# Altium footprint library esp8266modules.PCBLIB: 25 footprints (part 2 of 2)
Each footprint in its own frame and in the unit in brackets; x right, y up, seen from the top. Pads: shape width x height; smd on the part's side, far side on the other; paste and mask are expansions set on the pad; w line width, h text height; cw(c..) or ccw(c..) is an arc to the next point about the centre after c.
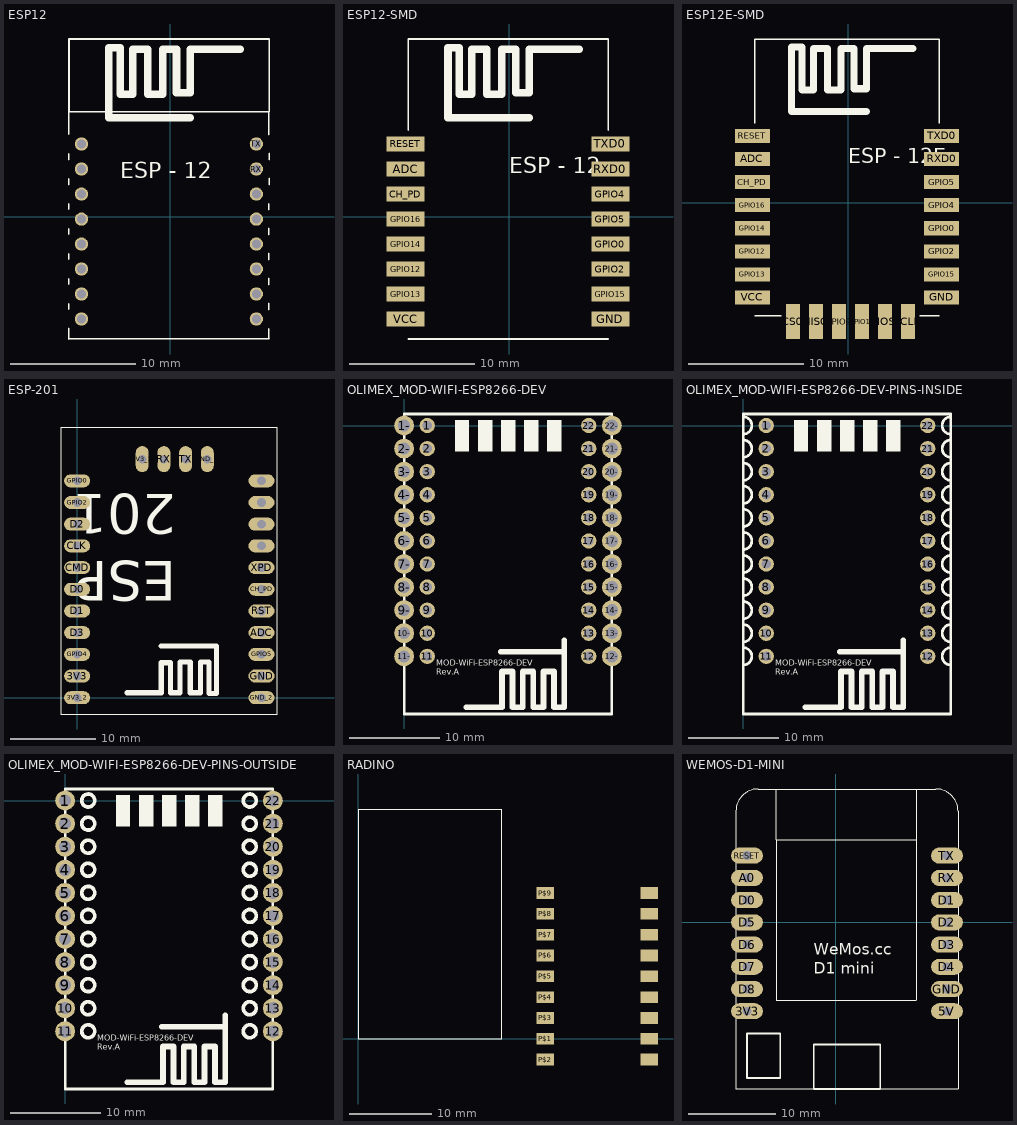
[diagram p1: the footprints below, top view; thin cyan lines are the x and y axes]

## ESP12 [mil]
pads (16):
  round 42 hole 28: ADC(-279.53,150) CH_PD(-279.53,71) GND(272,-322.83) GPIO0(272,-86.61) GPIO2(272,-165.35) GPIO4(272,71) GPIO5(272,-7.87) GPIO12(-279.53,-165.35) GPIO13(-279.53,-244.09) GPIO14(-279.53,-86.61) GPIO15(272,-244.09) GPIO16(-279.53,-7.87) RESET(-279.53,229) RX(272,150) TX(272,229) VCC(-279.53,-322.83)
Top Overlay:
  lines w5: -319,-386 -319,-353 ; -319,-292 -319,-275 ; -319,-214 -319,-196 ; -319,-135 -319,-117 ; -319,-56 -319,-38 ; -319,23 -319,40 ; -319,101 -319,119 ; -319,180 -319,198 ; -319,259 -319,331 ; -318.9,-385.83 312,-385.83 ; 310,331 311,331 311,258 ; 311,-385 311,-354 ; 311,-293 311,-274 ; 311,-215 311,-194 ; 311,-136 311,-115 ; 311,-57 311,-37 ; 311,22 311,41 ; 312,100 312,120 ; 312,180 312,199 ; -318.9,331 -318.9,560 312,560 312,331 -318.9,331
  lines w24: -192.91,335 -192.91,312 63,312 ; -192.91,339 -192.91,532 -157.48,532 -157.48,386 -118.11,386 -118.11,528 -70.87,528 -70.87,386 -23.62,386 -23.62,528 20,528 20,390 63,390 63,528 221,528
  text "ESP - 12" at -157.48,103 h86.8

## ESP12-SMD [mil]
pads (16):
  rect 119x48 smd: ADC(-326.77,150) CH_PD(-326.77,71) GND(319,-322.83) GPIO0(319,-86.61) GPIO2(319,-165.35) GPIO4(319,71) GPIO5(319,-7.87) GPIO12(-326.77,-165.35) GPIO13(-326.77,-244.09) GPIO14(-326.77,-86.61) GPIO15(319,-244.09) GPIO16(-326.77,-7.87) RESET(-326.77,229) RXD0(319,150) TXD0(319,229) VCC(-326.77,-322.83)
Top Overlay:
  lines w5: -318.9,-385.83 312,-385.83 ; -318.9,272 -318.9,560 312,560 312,272
  lines w24: -192.91,335 -192.91,312 63,312 ; -192.91,339 -192.91,532 -157.48,532 -157.48,386 -118.11,386 -118.11,528 -70.87,528 -70.87,386 -23.62,386 -23.62,528 20,528 20,390 63,390 63,528 221,528
  text "ESP - 12" at 0,119 h86.8

## ESP12E-SMD [mil]
pads (22):
  rect 119x48 smd: ADC(-326.77,150) CH_PD(-326.77,71) GND(319,-322.83) GPIO0(319,-86.61) GPIO2(319,-165.35) GPIO4(319,-7.87) GPIO5(319,71) GPIO12(-326.77,-165.35) GPIO13(-326.77,-244.09) GPIO14(-326.77,-86.61) GPIO15(319,-244.09) GPIO16(-326.77,-7.87) RESET(-326.77,229) RXD0(319,150) TXD0(319,229) VCC(-326.77,-322.83)
  rect 48x119 smd: CS0(-188.98,-405.51) GPIO9(-31.5,-405.51) GPIO10(48,-405.51) MISO(-110.24,-405.51) MOSI(126,-405.51) SCLK(205,-405.51)
Top Overlay:
  lines w5: -318.9,-385.83 -228.35,-385.83 ; -318.9,272 -318.9,560 312,560 312,272 ; 245,-385.83 312,-385.83
  lines w24: -192.91,335 -192.91,312 63,312 ; -192.91,339 -192.91,532 -157.48,532 -157.48,386 -118.11,386 -118.11,528 -70.87,528 -70.87,386 -23.62,386 -23.62,528 20,528 20,390 63,390 63,528 221,528
  text "ESP - 12E" at 0,119 h86.8

## ESP-201 [mil]
pads (26):
  oval 120x60 hole 40: 3V3(0,100) 3V3_2(0,0) ADC(850,300) CH_PD(850,500) CLK(0,700) CMD(0,600) D0(0,500) D1(0,400) D2(0,800) D3(0,300) GND(850,100) GND_2(850,0) GPIO0(0,1000) GPIO2(0,900) GPIO4(0,200) GPIO5(850,200) GPIO12(850,800) GPIO13(850,900) GPIO14(850,700) GPIO15(850,1000) RST(850,400) XPD(850,600)
  oval 60x120 hole 40: 3V3_3(300,1100) GND_3(600,1100) RX(400,1100) TX(500,1100)
Top Overlay:
  lines w5: -75,-75 922,-75 922,1244 -75,1244 -75,-75
  lines w24: 230,23 388,23 388,161 431,161 431,23 474,23 474,165 521,165 521,23 569,23 569,165 608,165 608,19 643,19 643,212 ; 388,239 643,239 643,216
  text "ESP" at 458,688 h310
  text "201" at 458,998 h310
Mechanical 16:
  region: 860,990 860,1010 840,1010 840,990
  region: 860,890 860,910 840,910 840,890
  region: 860,790 860,810 840,810 840,790
  region: 860,690 860,710 840,710 840,690
  region: 860,590 860,610 840,610 840,590
  region: 860,490 860,510 840,510 840,490
  region: 860,390 860,410 840,410 840,390
  region: 860,290 860,310 840,310 840,290
  region: 860,190 860,210 840,210 840,190
  region: 860,90 860,110 840,110 840,90
  region: 860,-10 860,10 840,10 840,-10
  region: 10,990 10,1010 -10,1010 -10,990
  region: 10,890 10,910 -10,910 -10,890
  region: 10,790 10,810 -10,810 -10,790
  region: 10,690 10,710 -10,710 -10,690
  region: 10,590 10,610 -10,610 -10,590
  region: 10,490 10,510 -10,510 -10,490
  region: 10,390 10,410 -10,410 -10,390
  region: 10,290 10,310 -10,310 -10,290
  region: 10,190 10,210 -10,210 -10,190
  region: 10,90 10,110 -10,110 -10,90
  region: 10,-10 10,10 -10,10 -10,-10
  region: 310,1110 290,1110 290,1090 310,1090
  region: 410,1110 390,1110 390,1090 410,1090
  region: 510,1110 490,1110 490,1090 510,1090
  region: 610,1110 590,1110 590,1090 610,1090

## OLIMEX_MOD-WIFI-ESP8266-DEV [mil]
pads (44):
  round 66 hole 40: 1(100,0) 2(100,-100) 3(100,-200) 4(100,-300) 5(100,-400) 6(100,-500) 7(100,-600) 8(100,-700) 9(100,-800) 10(100,-900) 11(100,-1000) 12(800,-1000) 13(800,-900) 14(800,-800) 15(800,-700) 16(800,-600) 17(800,-500) 18(800,-400) 19(800,-300) 20(800,-200) 21(800,-100) 22(800,0)
  round 86 hole 52: 1-(0,0) 2-(0,-100) 3-(0,-200) 4-(0,-300) 5-(0,-400) 6-(0,-500) 7-(0,-600) 8-(0,-700) 9-(0,-800) 10-(0,-900) 11-(0,-1000) 12-(900,-1000) 13-(900,-900) 14-(900,-800) 15-(900,-700) 16-(900,-600) 17-(900,-500) 18-(900,-400) 19-(900,-300) 20-(900,-200) 21-(900,-100) 22-(900,0)
Top Overlay:
  region: 219.25,24.75 219.25,-112.25 281.75,-112.25 281.75,24.75
  region: 319.25,24.75 319.25,-112.25 381.75,-112.25 381.75,24.75
  region: 419.25,24.75 419.25,-112.25 481.75,-112.25 481.75,24.75
  region: 519.25,24.75 519.25,-112.25 581.75,-112.25 581.75,24.75
  region: 619.25,24.75 619.25,-112.25 681.75,-112.25 681.75,24.75
  region: 219.25,24.75 219.25,-112.25 281.75,-112.25 281.75,24.75
  region: 319.25,24.75 319.25,-112.25 381.75,-112.25 381.75,24.75
  region: 419.25,24.75 419.25,-112.25 481.75,-112.25 481.75,24.75
  region: 519.25,24.75 519.25,-112.25 581.75,-112.25 581.75,24.75
  region: 619.25,24.75 619.25,-112.25 681.75,-112.25 681.75,24.75
  lines w12: 0,-1250 900,-1250 900,50 0,50 0,-1250
  lines w25: 269,-1220.63 424,-1220.63 424,-1065.63 469,-1065.63 469,-1220.63 514,-1220.63 514,-1065.63 559,-1065.63 559,-1220.63 604,-1220.63 604,-1065.63 649,-1065.63 649,-1220.63 694,-1220.63 694,-980.63 419,-980.63 ; 694,-1085.45 694,-930.45
  text "MOD-WiFi-ESP8266-DEV" at 140,-1040 h25.5
  text "Rev.A" at 140,-1080 h25.5

## OLIMEX_MOD-WIFI-ESP8266-DEV-PINS-INSIDE [mil]
pads (22):
  round 66 hole 40: 1(100,0) 2(100,-100) 3(100,-200) 4(100,-300) 5(100,-400) 6(100,-500) 7(100,-600) 8(100,-700) 9(100,-800) 10(100,-900) 11(100,-1000) 12(800,-1000) 13(800,-900) 14(800,-800) 15(800,-700) 16(800,-600) 17(800,-500) 18(800,-400) 19(800,-300) 20(800,-200) 21(800,-100) 22(800,0)
Top Overlay:
  region: 219.25,24.75 219.25,-112.25 281.75,-112.25 281.75,24.75
  region: 319.25,24.75 319.25,-112.25 381.75,-112.25 381.75,24.75
  region: 419.25,24.75 419.25,-112.25 481.75,-112.25 481.75,24.75
  region: 519.25,24.75 519.25,-112.25 581.75,-112.25 581.75,24.75
  region: 619.25,24.75 619.25,-112.25 681.75,-112.25 681.75,24.75
  lines w12: 0,-1037.5 ccw(c0,-1000) 0,-962.5 ; 0,-937.5 ccw(c0,-900) 0,-862.5 ; 0,-837.5 ccw(c0,-800) 0,-762.5 ; 0,-737.5 ccw(c0,-700) 0,-662.5 ; 0,-637.5 ccw(c0,-600) 0,-562.5 ; 0,-537.5 ccw(c0,-500) 0,-462.5 ; 0,-437.5 ccw(c0,-400) 0,-362.5 ; 0,-337.5 ccw(c0,-300) 0,-262.5 ; 0,-237.5 ccw(c0,-200) 0,-162.5 ; 0,-137.5 ccw(c0,-100) 0,-62.5 ; 0,-37.5 ccw(c0,0.25) 0,38 ; 900,-1037.5 cw(c900,-1000) 900,-962.5 ; 900,-937.5 cw(c900,-900) 900,-862.5 ; 900,-837.5 cw(c900,-800) 900,-762.5 ; 900,-737.5 cw(c900,-700) 900,-662.5 ; 900,-637.5 cw(c900,-600) 900,-562.5 ; 900,-537.5 cw(c900,-500) 900,-462.5 ; 900,-437.5 cw(c900,-400) 900,-362.5 ; 900,-337.5 cw(c900,-300) 900,-262.5 ; 900,-237.5 cw(c900,-200) 900,-162.5 ; 900,-137.5 cw(c900,-100) 900,-62.5 ; 900,-37.5 cw(c900,0.25) 900,38 ; 0,-1250 900,-1250 900,50 0,50 0,-1250
  lines w25: 269,-1220.63 424,-1220.63 424,-1065.63 469,-1065.63 469,-1220.63 514,-1220.63 514,-1065.63 559,-1065.63 559,-1220.63 604,-1220.63 604,-1065.63 649,-1065.63 649,-1220.63 694,-1220.63 694,-980.63 419,-980.63 ; 694,-1085.45 694,-930.45
  text "MOD-WiFi-ESP8266-DEV" at 140,-1040 h25.5
  text "Rev.A" at 140,-1080 h25.5

## OLIMEX_MOD-WIFI-ESP8266-DEV-PINS-OUTSIDE [mil]
pads (22):
  round 86 hole 52: 1(0,0) 2(0,-100) 3(0,-200) 4(0,-300) 5(0,-400) 6(0,-500) 7(0,-600) 8(0,-700) 9(0,-800) 10(0,-900) 11(0,-1000) 12(900,-1000) 13(900,-900) 14(900,-800) 15(900,-700) 16(900,-600) 17(900,-500) 18(900,-400) 19(900,-300) 20(900,-200) 21(900,-100) 22(900,0)
Top Overlay:
  circle w16: c100,-300 r28
  circle w16: c100,-200 r28
  circle w16: c100,-100 r28
  circle w16: c100,-400 r28
  circle w16: c100,-500 r28
  circle w16: c100,-600 r28
  circle w16: c100,0 r28
  circle w16: c100,-700 r28
  circle w16: c100,-800 r28
  circle w16: c100,-900 r28
  circle w16: c100,-1000 r28
  circle w16: c800,-1000 r28
  circle w16: c800,-900 r28
  circle w16: c800,-800 r28
  circle w16: c800,-700 r28
  circle w16: c800,-600 r28
  circle w16: c800,-500 r28
  circle w16: c800,-400 r28
  circle w16: c800,-300 r28
  circle w16: c800,-200 r28
  circle w16: c800,-100 r28
  circle w16: c800,0 r28
  region: 219.25,24.75 219.25,-112.25 281.75,-112.25 281.75,24.75
  region: 319.25,24.75 319.25,-112.25 381.75,-112.25 381.75,24.75
  region: 419.25,24.75 419.25,-112.25 481.75,-112.25 481.75,24.75
  region: 519.25,24.75 519.25,-112.25 581.75,-112.25 581.75,24.75
  region: 619.25,24.75 619.25,-112.25 681.75,-112.25 681.75,24.75
  region: 219.25,24.75 219.25,-112.25 281.75,-112.25 281.75,24.75
  region: 319.25,24.75 319.25,-112.25 381.75,-112.25 381.75,24.75
  region: 419.25,24.75 419.25,-112.25 481.75,-112.25 481.75,24.75
  region: 519.25,24.75 519.25,-112.25 581.75,-112.25 581.75,24.75
  region: 619.25,24.75 619.25,-112.25 681.75,-112.25 681.75,24.75
  lines w12: 0,-1250 900,-1250 900,50 0,50 0,-1250
  lines w25: 269,-1220.63 424,-1220.63 424,-1065.63 469,-1065.63 469,-1220.63 514,-1220.63 514,-1065.63 559,-1065.63 559,-1220.63 604,-1220.63 604,-1065.63 649,-1065.63 649,-1220.63 694,-1220.63 694,-980.63 419,-980.63 ; 694,-1085.45 694,-930.45
  text "MOD-WiFi-ESP8266-DEV" at 140,-1040 h25.5
  text "Rev.A" at 140,-1080 h25.5

## RADINO [mil]
pads (18):
  rect 83x56 smd: P$1(900,0) P$2(900,-100) P$3(900,100) P$4(900,200) P$5(900,300) P$6(900,400) P$7(900,500) P$8(900,600) P$9(900,700) P$10(1400,-100) P$11(1400,0) P$12(1400,100) P$13(1400,200) P$14(1400,300) P$15(1400,400) P$16(1400,500) P$17(1400,600) P$18(1400,700)
Top Overlay:
  lines w5: 0,0 690,0 690,1100 0,1100 0,0

## WEMOS-D1-MINI [mil]
pads (16):
  oval 144x72 hole 40: 3V3(-400,-400) 5V(500,-400) A0(-400,200) D0(-400,100) D1(500,100) D2(500,0) D3(500,-100) D4(500,-200) D5(-400,0) D6(-400,-100) D7(-400,-200) D8(-400,-300) GND(500,-300) RESET(-400,300) RX(500,200) TX(500,300)
Top Overlay:
  lines w5: -269,371 -269,-350 360,-350 ; 360,371 361,371 361,-350 ; -450,-750 -450,500 cw(c-350,500) -350,600 450,600 cw(c450,500) 550,500 550,-750 -450,-750 ; -268.9,371 -268.9,600 362,600 362,371 -268.9,371
  lines w8: -400,-700 -400,-500 -250,-500 -250,-700 -400,-700 ; -100,-750 200,-750 200,-550 -100,-550 -100,-750
  text "WeMos.cc" at -100,-163.2 h86.8
  text "D1 mini" at -100,-250 h86.8
Mechanical 2:
  text "RST" at -350,300 h46.5
  text "A0" at -350,200 h46.5
  text "D0" at -350,100 h46.5
  text "D5" at -350,0 h46.5
  text "D6" at -350,-100 h46.5
  text "D7" at -350,-200 h46.5
  text "D8" at -350,-300 h46.5
  text "3V3" at -350,-400 h46.5
  text "5V" at 450,-400 h46.5
  text "GND" at 450,-300 h46.5
  text "D4" at 450,-200 h46.5
  text "D3" at 450,-100 h46.5
  text "D2" at 450,0 h46.5
  text "D1" at 450,100 h46.5
  text "RX" at 450,200 h46.5
  text "TX" at 450,300 h46.5
  text "ANTENNA" at 50,586.8 h86.8
  text "KEEP CLEAR" at 50,500 h86.8
  text "USB" at 50,-588 h62
  text "MICRO" at 50,-650 h62
  text "RESET" at -325,-561.25 h38.75
  text "SWITCH" at -325,-600 h38.75